# Altium footprint library Connectors.PcbLib: 32 footprints (part 2 of 2)
Each footprint in its own frame and in the unit in brackets; x right, y up, seen from the top. Pads: shape width x height; smd on the part's side, far side on the other; paste and mask are expansions set on the pad; w line width, h text height; cw(c..) or ccw(c..) is an arc to the next point about the centre after c.
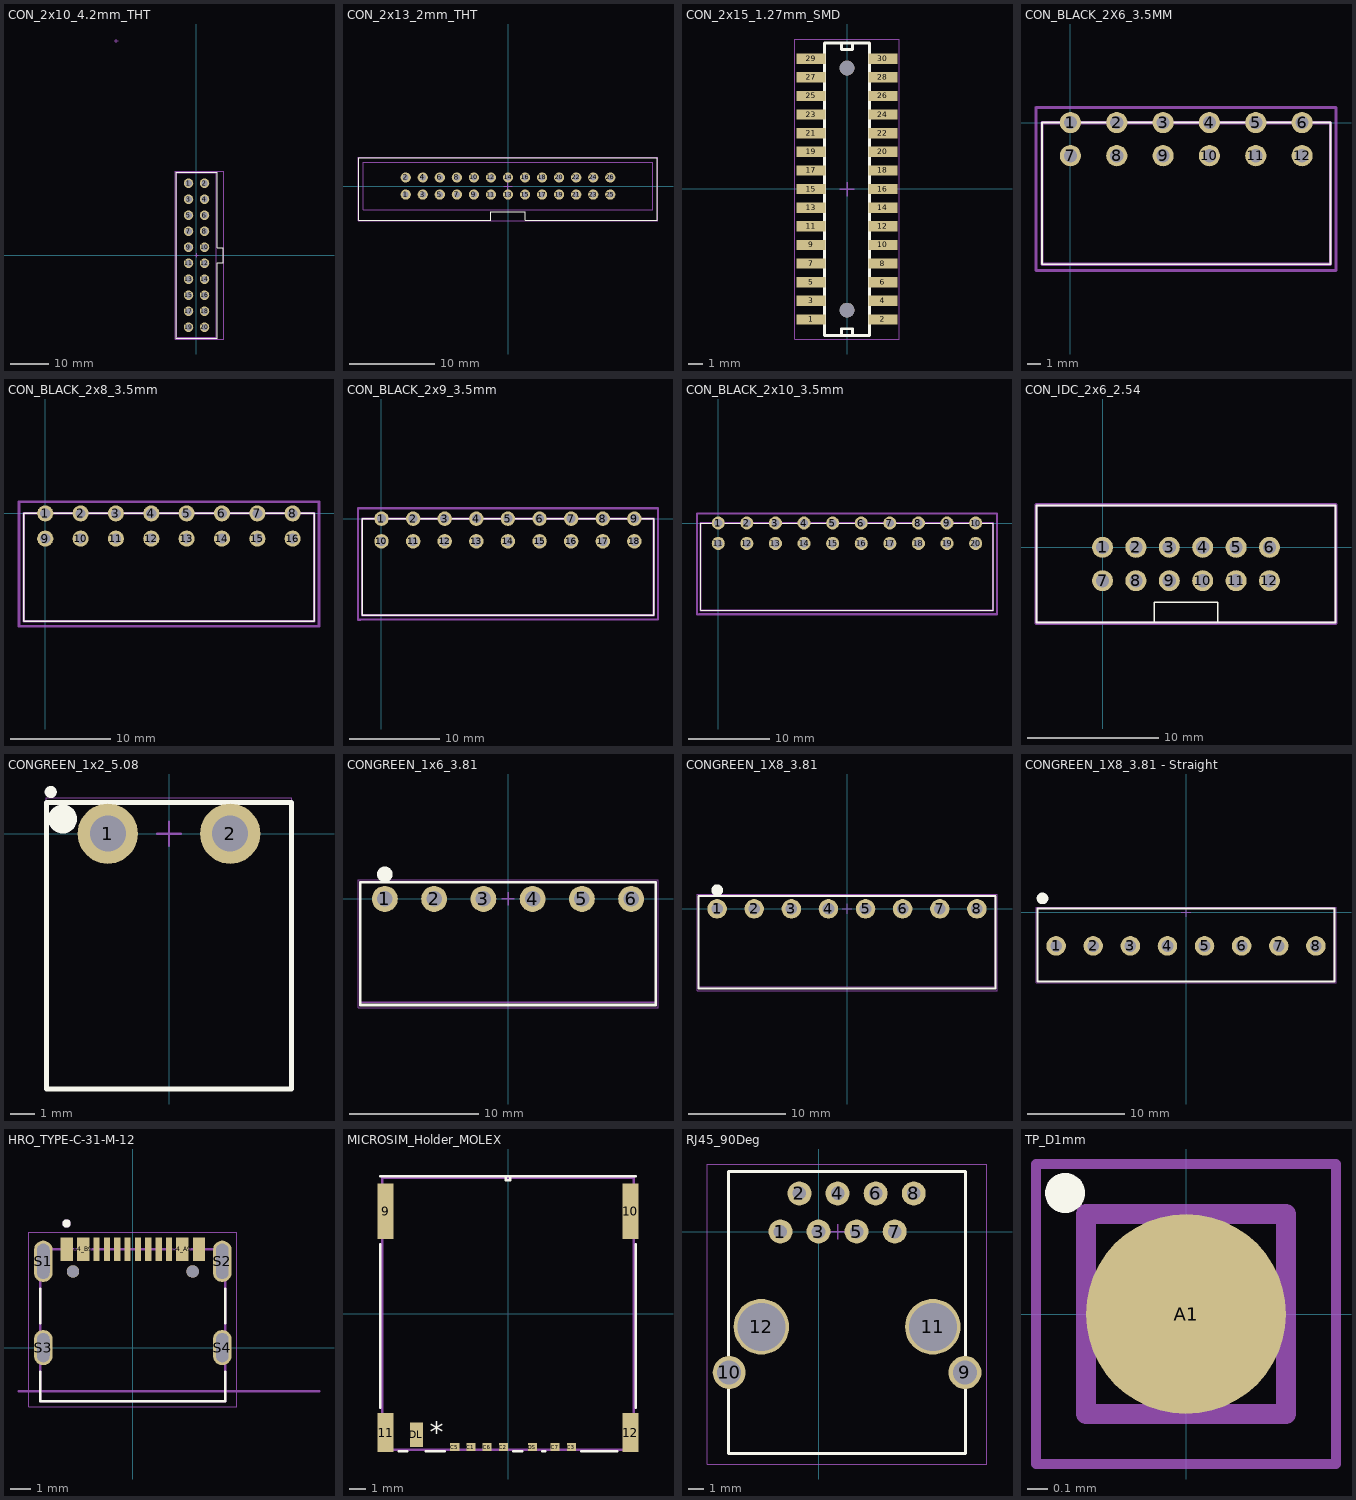
[diagram p1: the footprints below, top view; thin cyan lines are the x and y axes]

## CON_2x10_4.2mm_THT [mm]
pads (20):
  round 2.5 hole 1.7: 1(-2.095,18.897) 2(2.105,18.897) 3(-2.095,14.697) 4(2.105,14.697) 5(-2.095,10.497) 6(2.105,10.497) 7(-2.095,6.297) 8(2.105,6.297) 9(-2.095,2.097) 10(2.105,2.097) 11(-2.095,-2.103) 12(2.105,-2.103) 13(-2.095,-6.303) 14(2.105,-6.303) 15(-2.095,-10.503) 16(2.105,-10.503) 17(-2.095,-14.703) 18(2.105,-14.703) 19(-2.095,-18.903) 20(2.105,-18.903)
Top Overlay:
  lines w0.1: -5.395,-21.803 5.405,-21.803 5.405,-2.003 7.005,-2.003 7.005,1.997 6.205,1.997 5.405,1.997 5.405,21.797 -5.395,21.797 -5.395,-21.803
Mechanical 13:
  lines w0.1: -5.195,-21.603 5.205,-21.603 5.205,21.597 -5.195,21.597 -5.195,-21.603
Mechanical 15:
  lines w0.05: -5.595,-22.003 7.105,-22.003 7.105,21.997 -5.595,21.997 -5.595,-22.003
  lines w0.1: -21.545,56.273 -20.545,56.273 ; -21.045,55.773 -21.045,56.773 ; -0.495,-0.003 0.505,-0.003 ; 0.005,-0.503 0.005,0.497
3D body: height 13.1, standoff 0.1, extent -5.195,-21.603 5.205,21.597
3D body: height 12, standoff -3.7, extent -2.695,-19.503 -1.495,-18.303
3D body: height 12, standoff -3.7, extent 1.505,-19.503 2.705,-18.303
3D body: height 12, standoff -3.7, extent -2.695,18.297 -1.495,19.497
3D body: height 12, standoff -3.7, extent 1.505,18.297 2.705,19.497
3D body: height 12, standoff -3.7, extent 1.505,14.097 2.705,15.297
3D body: height 12, standoff -3.7, extent 1.505,9.897 2.705,11.097
3D body: height 12, standoff -3.7, extent 1.505,5.697 2.705,6.897
3D body: height 12, standoff -3.7, extent 1.505,1.497 2.705,2.697
3D body: height 12, standoff -3.7, extent 1.505,-2.703 2.705,-1.503
3D body: height 12, standoff -3.7, extent 1.505,-6.903 2.705,-5.703
3D body: height 12, standoff -3.7, extent 1.505,-11.103 2.705,-9.903
3D body: height 12, standoff -3.7, extent 1.505,-15.303 2.705,-14.103
3D body: height 12, standoff -3.7, extent -2.695,-15.303 -1.495,-14.103
3D body: height 12, standoff -3.7, extent -2.695,-11.103 -1.495,-9.903
3D body: height 12, standoff -3.7, extent -2.695,-6.903 -1.495,-5.703
3D body: height 12, standoff -3.7, extent -2.695,-2.703 -1.495,-1.503
3D body: height 12, standoff -3.7, extent -2.695,1.497 -1.495,2.697
3D body: height 12, standoff -3.7, extent -2.695,5.697 -1.495,6.897
3D body: height 12, standoff -3.7, extent -2.695,9.897 -1.495,11.097
3D body: height 12, standoff -3.7, extent -2.695,14.097 -1.495,15.297

## CON_2x13_2mm_THT [mm]
height 1.4
pads (26):
  round 1.2 hole 0.7: 1(-12,-1) 2(-12,1) 3(-10,-1) 4(-10,1) 5(-8,-1) 6(-8,1) 7(-6,-1) 8(-6,1) 9(-4,-1) 10(-4,1) 11(-2,-1) 12(-2,1) 13(0,-1) 14(0,1) 15(2,-1) 16(2,1) 17(4,-1) 18(4,1) 19(6,-1) 20(6,1) 21(8,-1) 22(8,1) 23(10,-1) 24(10,1) 25(12,-1) 26(12,1)
Top Overlay:
  lines w0.1: -17.5,-4 -2,-4 -2,-3 2,-3 2,-4 17.5,-4 17.5,3.3 -17.5,3.3 -17.5,-4
Mechanical 13:
  lines w0.1: -17,-2.8 17,-2.8 17,2.8 -17,2.8 -17,-2.8
Mechanical 15:
  lines w0.05: -17.6,-4.1 17.6,-4.1 17.6,3.4 -17.6,3.4 -17.6,-4.1
  lines w0.1: -0.5,0 0.5,0 ; 0,-0.5 0,0.5
3D body: height 1.4, standoff 0.1, extent -17,-2.8 17,2.8
3D body: height 5.65, standoff 0.1, extent 2,-2.8 17,-2.5
3D body: height 5.5, standoff -2.8, extent -12.2,0.8 -11.8,1.2
3D body: height 5.5, standoff -2.8, extent -10.2,0.8 -9.8,1.2
3D body: height 5.5, standoff -2.8, extent -8.2,0.8 -7.8,1.2
3D body: height 5.5, standoff -2.8, extent -6.2,0.8 -5.8,1.2
3D body: height 5.5, standoff -2.8, extent -4.2,0.8 -3.8,1.2
3D body: height 5.5, standoff -2.8, extent -2.2,0.8 -1.8,1.2
3D body: height 5.5, standoff -2.8, extent -0.2,0.8 0.2,1.2
3D body: height 5.5, standoff -2.8, extent 1.8,0.8 2.2,1.2
3D body: height 5.5, standoff -2.8, extent 3.8,0.8 4.2,1.2
3D body: height 5.5, standoff -2.8, extent 5.8,0.8 6.2,1.2
3D body: height 5.5, standoff -2.8, extent 7.8,0.8 8.2,1.2
3D body: height 5.5, standoff -2.8, extent 9.8,0.8 10.2,1.2
3D body: height 5.5, standoff -2.8, extent 11.8,0.8 12.2,1.2
3D body: height 5.5, standoff -2.8, extent 11.8,-1.2 12.2,-0.8
3D body: height 5.5, standoff -2.8, extent 9.8,-1.2 10.2,-0.8
3D body: height 5.5, standoff -2.8, extent 7.8,-1.2 8.2,-0.8
3D body: height 5.5, standoff -2.8, extent 5.8,-1.2 6.2,-0.8
3D body: height 5.5, standoff -2.8, extent 3.8,-1.2 4.2,-0.8
3D body: height 5.5, standoff -2.8, extent 1.8,-1.2 2.2,-0.8
3D body: height 5.5, standoff -2.8, extent -0.2,-1.2 0.2,-0.8
3D body: height 5.5, standoff -2.8, extent -2.2,-1.2 -1.8,-0.8
3D body: height 5.5, standoff -2.8, extent -4.2,-1.2 -3.8,-0.8
3D body: height 5.5, standoff -2.8, extent -6.2,-1.2 -5.8,-0.8
3D body: height 5.5, standoff -2.8, extent -8.2,-1.2 -7.8,-0.8
3D body: height 5.5, standoff -2.8, extent -10.2,-1.2 -9.8,-0.8
3D body: height 5.5, standoff -2.8, extent -12.2,-1.2 -11.8,-0.8
3D body: height 5.65, standoff 0.1, extent -17,-2.8 -2,-2.5
3D body: height 5.65, standoff 0.1, extent -17,2.5 17,2.8
3D body: height 5.65, standoff 0.1, extent 16.7,-2.8 17,2.8
3D body: height 5.65, standoff 0.1, extent -17,-2.8 -16.7,2.8

## CON_2x15_1.27mm_SMD [mm]
pads (32):
  rect 2x0.7 smd: 1(-2.452,-8.897) 2(2.448,-8.897) 3(-2.452,-7.627) 4(2.448,-7.627) 5(-2.452,-6.357) 6(2.448,-6.357) 7(-2.452,-5.087) 8(2.448,-5.087) 9(-2.452,-3.817) 10(2.448,-3.817) 11(-2.452,-2.547) 12(2.448,-2.547) 13(-2.452,-1.277) 14(2.448,-1.277) 15(-2.452,-0.007) 16(2.448,-0.007) 17(-2.452,1.263) 18(2.448,1.263) 19(-2.452,2.533) 20(2.448,2.533) 21(-2.452,3.803) 22(2.448,3.803) 23(-2.452,5.073) 24(2.448,5.073) 25(-2.452,6.343) 26(2.448,6.343) 27(-2.452,7.613) 28(2.448,7.613) 29(-2.452,8.883) 30(2.448,8.883)
  round 1 hole 1 unplated: ""(0,-8.262) ""(0,8.248)
Top Overlay:
  lines w0.2: -0.383,-9.982 -0.383,-9.532 0.379,-9.532 0.379,-9.982 ; -0.383,9.968 -0.383,9.518 0.379,9.518 0.379,9.968 ; -1.524,-9.982 -1.524,9.968 1.524,9.968 1.524,-9.982 -1.524,-9.982
Mechanical 13:
  lines w0.1: -1.552,-9.982 1.548,-9.982 1.548,9.968 -1.552,9.968 -1.552,-9.982
Mechanical 15:
  lines w0.05: -3.577,-10.232 3.573,-10.232 3.573,10.229 -3.577,10.229 -3.577,-10.232
  lines w0.1: -0.484,-0.007 0.481,-0.007 ; -0.002,-0.49 -0.002,0.475
3D body: height -0.5, standoff -3.75, extent -1.552,-9.982 1.548,9.968

## CON_BLACK_2X6_3.5MM [mm]
pads (12):
  round 1.6 hole 1: 1(0,0) 2(3.5,0) 3(7,0) 4(10.5,0) 5(14,0) 6(17.5,0) 7(0,-2.5) 8(3.5,-2.5) 9(7,-2.5) 10(10.5,-2.5) 11(14,-2.5) 12(17.5,-2.5)
Top Overlay:
  lines w0.15: -2.15,-10.7 19.65,-10.7 19.65,0 -2.15,0 -2.15,-10.7
Top Assembly:
  lines w0.254: -2.15,-10.7 19.65,-10.7 19.65,0 -2.15,0 -2.15,-10.7
Top Courtyard:
  lines w0.254: -2.6,-11.172 -2.6,-10.668 -2.6,0 -2.6,1.139 -2.599,1.14 -2.349,1.14 20.061,1.14 20.061,0 20.061,-10.668 20.061,-11.168 -2.349,-11.168 -2.354,-11.172 -2.6,-11.172
3D body: height 0.9, standoff 0.1, extent -2.032,-10.7 19.685,0

## CON_BLACK_2x8_3.5mm [mm] "15EDGKNH KF2EDGKS 3.5 Double-layer spring-loaded PCB terminal block 2EDGSR black terminal"
pads (16):
  round 1.6 hole 1: 1(0,0) 2(3.5,0) 3(7,0) 4(10.5,0) 5(14,0) 6(17.5,0) 7(21,0) 8(24.5,0) 9(0,-2.5) 10(3.5,-2.5) 11(7,-2.5) 12(10.5,-2.5) 13(14,-2.5) 14(17.5,-2.5) 15(21,-2.5) 16(24.5,-2.5)
Top Overlay:
  lines w0.15: -2.15,-10.7 26.65,-10.7 26.65,0 -2.15,0 -2.15,-10.7
Top Assembly:
  lines w0.254: -2.15,-10.7 26.65,-10.7 26.65,0 -2.15,0 -2.15,-10.7
Top Courtyard:
  lines w0.254: -2.6,-11.172 -2.354,-11.172 -2.349,-11.168 26.86,-11.168 26.864,-11.171 27.11,-11.171 27.11,-10.668 27.11,0 27.11,1.14 26.86,1.14 -2.349,1.14 -2.599,1.14 -2.6,1.139 -2.6,0 -2.6,-10.668 -2.6,-11.172
3D body: height 0.9, standoff 0.1, extent -2.159,-10.7 26.67,-0.054

## CON_BLACK_2x9_3.5mm [mm] "15EDGKNH KF2EDGKS 3.5 Double-layer spring-loaded PCB terminal block 2EDGSR black terminal"
pads (18):
  round 1.6 hole 1: 1(0,0) 2(3.5,0) 3(7,0) 4(10.5,0) 5(14,0) 6(17.5,0) 7(21,0) 8(24.5,0) 9(28,0) 10(0,-2.5) 11(3.5,-2.5) 12(7,-2.5) 13(10.5,-2.5) 14(14,-2.5) 15(17.5,-2.5) 16(21,-2.5) 17(24.5,-2.5) 18(28,-2.5)
Top Overlay:
  lines w0.15: -2.15,-10.7 26.65,-10.7 30.15,-10.7 30.15,0 26.65,0 -2.15,0 -2.15,-10.7
Top Assembly:
  lines w0.254: -2.15,-10.7 26.65,-10.7 30.15,-10.7 30.15,0 26.65,0 -2.15,0 -2.15,-10.7
Top Courtyard:
  lines w0.254: 26.864,-11.171 26.86,-11.168 ; 26.86,-11.168 30.543,-11.168 30.615,-11.168 30.615,-10.668 30.615,0 30.615,1.14 30.607,1.14 26.86,1.14 -2.349,1.14 -2.599,1.14 -2.6,1.139 -2.6,0 -2.6,-10.668 -2.6,-11.172 -2.354,-11.172 -2.349,-11.168 26.86,-11.168
3D body: height 0.9, standoff 0.1, extent -2.159,-10.7 30.15,-0.054

## CON_BLACK_2x10_3.5mm [mm] "15EDGKNH KF2EDGKS 3.5 Double-layer spring-loaded PCB terminal block 2EDGSR black terminal"
pads (20):
  round 1.6 hole 1: 1(0,0) 2(3.5,0) 3(7,0) 4(10.5,0) 5(14,0) 6(17.5,0) 7(21,0) 8(24.5,0) 9(28,0) 10(31.5,0) 11(0,-2.5) 12(3.5,-2.5) 13(7,-2.5) 14(10.5,-2.5) 15(14,-2.5) 16(17.5,-2.5) 17(21,-2.5) 18(24.5,-2.5) 19(28,-2.5) 20(31.5,-2.5)
Top Overlay:
  lines w0.15: -2.15,-10.7 -2.15,0 26.65,0 33.65,0 33.65,-10.7 26.65,-10.7 -2.15,-10.7
Top Assembly:
  lines w0.254: -2.15,-10.7 -2.15,0 26.65,0 33.65,0 33.65,-10.7 26.65,-10.7 -2.15,-10.7
Top Courtyard:
  lines w0.254: 26.864,-11.171 26.86,-11.168 ; 26.86,-11.168 -2.349,-11.168 -2.354,-11.172 -2.6,-11.172 -2.6,-10.668 -2.6,0 -2.6,1.139 -2.599,1.14 -2.349,1.14 26.86,1.14 34.115,1.14 34.115,0 34.115,-10.668 34.115,-11.168 26.86,-11.168
3D body: height 0.9, standoff 0.1, extent -2.159,-10.7 33.655,-0.054

## CON_IDC_2x6_2.54 [mm]
pads (12):
  round 1.6 hole 1: 1(0,0) 2(2.54,0) 3(5.08,0) 4(7.62,0) 5(10.16,0) 6(12.7,0) 7(0,-2.54) 8(2.54,-2.54) 9(5.08,-2.54) 10(7.62,-2.54) 11(10.16,-2.54) 12(12.7,-2.54)
Top Overlay:
  lines w0.128: 3.937,-5.715 3.937,-4.191 8.763,-4.191 8.763,-5.715 ; -5.016,-5.715 17.717,-5.715 17.717,3.175 -5.016,3.175 -5.016,-5.715
Top Assembly:
  lines w0.254: -5.06,-5.77 17.76,-5.77 17.76,3.23 -5.06,3.23 -5.06,-5.77
3D body: height 0.9, standoff 0.1, extent -5.017,-5.715 17.717,3.175

## CONGREEN_1x2_5.08 [mm]
height 4.8
pads (2):
  round 2.5 hole 1.5: 1(-2.54,0) 2(2.54,0)
Top Overlay:
  circle w0.25: c-4.91,1.73 r0.125
  circle w0.6: c-4.42,0.61 r0.3
  lines w0.2: -5.08,-10.6 -5.08,1.3 5.08,1.3 5.08,-10.6 -5.08,-10.6
Mechanical 13:
  circle w0.1: c-4.43,0.61 r0.5
  lines w0.1: -5.08,-10.6 -5.08,1.3 5.08,1.3 5.08,-10.6 -5.08,-10.6
Mechanical 15:
  lines w0.05: -5.1,-10.6 -5.1,1.5 5.1,1.5 5.1,-10.6 -5.1,-10.6
  lines w0.1: -0.5,0 0.5,0 ; 0,-0.5 0,0.5
3D body: height 3.6, standoff -3.6, extent -3.04,-0.5 -2.04,0.5
3D body: height 3.6, standoff -3.6, extent 2.04,-0.5 3.04,0.5
3D body: height 4.6, standoff 3.6, extent 2.02,-9.5 3.02,0.55
3D body: height 4.6, standoff 3.6, extent -3.03,-9.5 -2.03,0.6
3D body: height 8.2, standoff 0.1, extent -5.08,-3.35 5.08,1.35
3D body: height 1.8, standoff 0.1, extent -5.08,-10.62 5.08,1.29
3D body: height 9, standoff 8.2, extent -5.09,-10.622 5.07,-7.9
3D body: height 8.2, standoff 6.5, extent -5.08,-10.62 5.08,1.29

## CONGREEN_1x6_3.81 [mm] "SOIC, 100-Leads, Body 64,17x3,05mm, Pitch 1,27mm, IPC Medium Density"
height 4.8
pads (6):
  round 2 hole 1.2: 1(-9.525,0) 2(-5.715,0) 3(-1.905,0) 4(1.905,0) 5(5.715,0) 6(9.525,0)
Top Overlay:
  circle w0.6: c-9.525,1.905 r0.3
  lines w0.2: -11.43,-8.2 -11.43,1.3 11.43,1.3 11.43,-8.2 -11.43,-8.2
Mechanical 13:
  lines w0.1: -11.43,-8 -11.43,1.3 11.43,1.3 11.43,-8 -11.43,-8
Mechanical 15:
  lines w0.05: -11.6,-8.4 -11.6,1.5 11.6,1.5 11.6,-8.4 -11.6,-8.4
  lines w0.1: -0.5,0 0.5,0 ; 0,-0.5 0,0.5
3D body: height 3.8, standoff 3, extent 9.08,-7.6 9.98,0.4
3D body: height 3.6, standoff -3.6, extent 9.075,-0.45 9.975,0.45
3D body: height 3.8, standoff 3, extent -9.97,-7.6 -9.07,0.4
3D body: height 3.6, standoff -3.6, extent -9.975,-0.45 -9.075,0.45
3D body: height 3.8, standoff 3, extent -6.16,-7.6 -5.26,0.4
3D body: height 3.6, standoff -3.6, extent -6.165,-0.45 -5.265,0.45
3D body: height 3.8, standoff 3, extent -2.35,-7.6 -1.45,0.4
3D body: height 3.6, standoff -3.6, extent -2.355,-0.45 -1.455,0.45
3D body: height 3.6, standoff -3.6, extent 1.455,-0.45 2.355,0.45
3D body: height 3.8, standoff 3, extent 1.46,-7.6 2.36,0.4
3D body: height 6.8, standoff 0.1, extent -11.43,-1.5 11.43,1.35
3D body: height 0.9, standoff 0.1, extent -11.43,-8 11.43,1.29
3D body: height 6.8, standoff 6, extent -11.43,-8 11.43,1.29
3D body: height 3.8, standoff 3, extent 5.27,-7.6 6.17,0.4
3D body: height 3.6, standoff -3.6, extent 5.265,-0.45 6.165,0.45

## CONGREEN_1X8_3.81 [mm] "SOIC, 100-Leads, Body 64,17x3,05mm, Pitch 1,27mm, IPC Medium Density"
height 4.8
pads (8):
  round 2 hole 1.2: 1(-13.335,0) 2(-9.525,0) 3(-5.715,0) 4(-1.905,0) 5(1.905,0) 6(5.715,0) 7(9.525,0) 8(13.335,0)
Top Overlay:
  circle w0.6: c-13.335,1.905 r0.3
  lines w0.2: -15.24,-8.2 -15.24,1.3 15.24,1.3 15.24,-8.2 -15.24,-8.2
Mechanical 13:
  lines w0.1: -15.24,-8 -15.24,1.3 15.24,1.3 15.24,-8 -15.24,-8
Mechanical 15:
  lines w0.05: -15.4,-8.4 -15.4,1.5 15.4,1.5 15.4,-8.4 -15.4,-8.4
  lines w0.1: -0.5,0 0.5,0 ; 0,-0.5 0,0.5
3D body: height 3.8, standoff 3, extent 12.89,-7.6 13.79,0.4
3D body: height 3.6, standoff -3.6, extent 12.885,-0.45 13.785,0.45
3D body: height 3.8, standoff 3, extent 9.08,-7.6 9.98,0.4
3D body: height 3.6, standoff -3.6, extent 9.075,-0.45 9.975,0.45
3D body: height 3.8, standoff 3, extent 5.27,-7.6 6.17,0.4
3D body: height 3.6, standoff -3.6, extent 5.265,-0.45 6.165,0.45
3D body: height 3.8, standoff 3, extent -13.78,-7.6 -12.88,0.4
3D body: height 3.6, standoff -3.6, extent -13.785,-0.45 -12.885,0.45
3D body: height 3.8, standoff 3, extent -9.97,-7.6 -9.07,0.4
3D body: height 3.6, standoff -3.6, extent -9.975,-0.45 -9.075,0.45
3D body: height 3.8, standoff 3, extent -6.16,-7.6 -5.26,0.4
3D body: height 3.6, standoff -3.6, extent -6.165,-0.45 -5.265,0.45
3D body: height 3.6, standoff -3.6, extent -2.355,-0.45 -1.455,0.45
3D body: height 3.8, standoff 3, extent -2.35,-7.6 -1.45,0.4
3D body: height 6.8, standoff 0.1, extent -15.24,-1.5 15.24,1.35
3D body: height 0.9, standoff 0.1, extent -15.24,-8 15.24,1.29
3D body: height 6.8, standoff 6, extent -15.24,-8 15.24,1.29
3D body: height 3.8, standoff 3, extent 1.46,-7.6 2.36,0.4
3D body: height 3.6, standoff -3.6, extent 1.455,-0.45 2.355,0.45

## CONGREEN_1X8_3.81 - Straight [mm] "Straight Pin 3.81MM Pitch green connector"
height 4.8
pads (8):
  round 2 hole 1.2: 1(-13.335,-3.48) 2(-9.525,-3.48) 3(-5.715,-3.48) 4(-1.905,-3.48) 5(1.905,-3.48) 6(5.715,-3.48) 7(9.525,-3.48) 8(13.335,-3.48)
Top Overlay:
  circle w0.6: c-14.732,1.397 r0.3
  lines w0.2: -15.24,-7.112 -15.24,0.381 15.24,0.381 15.24,-7.112 -15.24,-7.112
Mechanical 13:
  lines w0.1: -15.24,-7.112 -15.24,0.381 15.24,0.381 15.24,-7.112 -15.24,-7.112
Mechanical 15:
  lines w0.05: -15.4,-7.239 -15.4,0.508 15.4,0.508 15.4,-7.239 -15.4,-7.239
  lines w0.1: -0.5,0 0.5,0 ; 0,-0.5 0,0.5
3D body: height 6, standoff -1.2, extent -9.975,-3.93 -9.075,-3.03
3D body: height 6, standoff -1.2, extent 12.885,-3.93 13.785,-3.03
3D body: height 6, standoff -1.2, extent 9.075,-3.93 9.975,-3.03
3D body: height 6, standoff -1.2, extent 5.265,-3.93 6.165,-3.03
3D body: height 6, standoff -1.2, extent -13.785,-3.93 -12.885,-3.03
3D body: height 6, standoff -1.2, extent -6.165,-3.93 -5.265,-3.03
3D body: height 6, standoff -1.2, extent -2.355,-3.93 -1.455,-3.03
3D body: height 0.9, standoff 0.1, extent -15.24,-7.112 15.24,0.381
3D body: height 6, standoff -1.2, extent 1.455,-3.93 2.355,-3.03
3D body: height 8, standoff 0.1, extent -15.24,-0.381 15.24,0.381
3D body: height 8, standoff 0.1, extent -15.24,-7.112 15.24,-6.35

## HRO_TYPE-C-31-M-12 [mm]
height 3.26
pads (18):
  rect 0.6x1.14 smd mask+0.05: A1_B12(-3.2,4.75) A4_B9(-2.4,4.75) B1_A12(3.2,4.75) B4_A9(2.4,4.75)
  rect 0.3x1.14 smd mask+0.05: A5(-1.25,4.75) A6(-0.25,4.75) A7(0.25,4.75) A8(1.25,4.75) B5(1.75,4.75) B6(0.75,4.75) B7(-0.75,4.75) B8(-1.75,4.75)
  oval 0.9x2 hole 0.6 slot 1.7 at 90 deg: S1(-4.325,4.17) S2(4.325,4.17)
  oval 0.9x1.7 hole 0.6 slot 1.4 at 90 deg: S3(-4.325,0) S4(4.325,0)
  round 0.6 hole 0.6 unplated: ""(-2.89,3.68) ""(2.89,3.68)
Top Overlay:
  circle w0.2: c-3.2,6 r0.1
  lines w0.127: -4.47,-1.17 -4.47,-2.6 4.47,-2.6 4.47,-1.17 ; -4.47,1.17 -4.47,2.85 ; 4.47,1.17 4.47,2.85
Mechanical 13:
  circle w0.2: c-3.2,6 r0.1
  lines w0.127: -5.5,-2.11 9,-2.11 ; -4.47,-2.6 -4.47,4.75 4.47,4.75 4.47,-2.6 -4.47,-2.6
  text "PCB EDGE" at 5.2,-1.9 h0.61
Mechanical 15:
  lines w0.05: -5.025,-2.85 5.025,-2.85 5.025,5.57 -5.025,5.57 -5.025,-2.85
3D body "step_temp.STEP": height 3.31, standoff -0.99, extent -4.47,-2.6 4.47,5.305

## MICROSIM_Holder_MOLEX [mil]
pads (12):
  rect 39x134 smd: 9(-297.24,248.79) 10(297.24,248.79)
  rect 39x94 smd: 11(-297.24,-288.61) 12(297.24,-288.61)
  rect 22x20 smd: C1(-89.96,-324.04) C2(-11.22,-324.04) C3(153.74,-324.04) C5(-129.33,-324.04) C6(-50.59,-324.04) C7(114.37,-324.04) DS(59.06,-324.04)
  rect 32x59 smd: DL(-222.44,-293.73)
Top Overlay:
  lines w6: -310,-229 -310,169 ; -310,334 -5,334 ; -265,-334 -245,-334 ; -200,-334 -153,-334 ; 13,-334 35,-334 ; 83,-334 90,-334 ; 178,-334 265,-334 ; 310,-229 310,169 ; 310,334 5,334 ; -5,334 5,334 ; -5,334 -5,324 5,324 5,334
  text "*" at -190,-312.5 h50
Mechanical 13:
  lines w6: -305,-330 305,-330 305,330 -305,330 -305,-330
  text "*" at -190,-312.5 h50

## RJ45_90Deg [mm]
pads (12):
  round 1.6 hole 0.9: 1(-2.54,0) 2(-1.27,2.54) 3(0,0) 4(1.27,2.54) 5(2.54,0) 6(3.81,2.54) 7(5.08,0) 8(6.35,2.54)
  round 2.2 hole 1.6: 9(9.76,-9.4) 10(-5.95,-9.4)
  round 3.7 hole 3.2: 11(7.62,-6.35) 12(-3.81,-6.35)
Top Overlay:
  lines w0.2: -6,-14.8 -6,4 9.8,4 9.8,-14.8 -6,-14.8
Mechanical 13:
  lines w0.1: -6,-14.8 -6,4 9.8,4 9.8,-14.8 -6,-14.8
Mechanical 15:
  lines w0.05: -7.4,-15.5 -7.4,4.5 11.2,4.5 11.2,-15.5 -7.4,-15.5
  lines w0.1: 0.77,0 1.77,0 ; 1.27,-0.5 1.27,0.5
3D body: height 13.3, standoff 0.3, extent -6,-14.8 9.8,4

## TP_D1mm [mm]
pads (1):
  round 1 smd: A1(0,0)
Top Overlay:
  circle w0.1: c-0.605,0.605 r0.05
Mechanical 13:
  lines w0.1: -0.5,-0.5 0.5,-0.5 0.5,0.5 -0.5,0.5 -0.5,-0.5
Mechanical 15:
  lines w0.05: -0.75,-0.75 0.75,-0.75 0.75,0.75 -0.75,0.75 -0.75,-0.75
  lines w0.1: -0.5,0 0.5,0 ; 0,-0.5 0,0.5
3D body: height 0.1, standoff 0, extent -0.5,-0.5 0.5,0.5